# Altium integrated library Micron Memory DDR3 SDRAM.IntLib: 123 symbols (part 24 of 37)
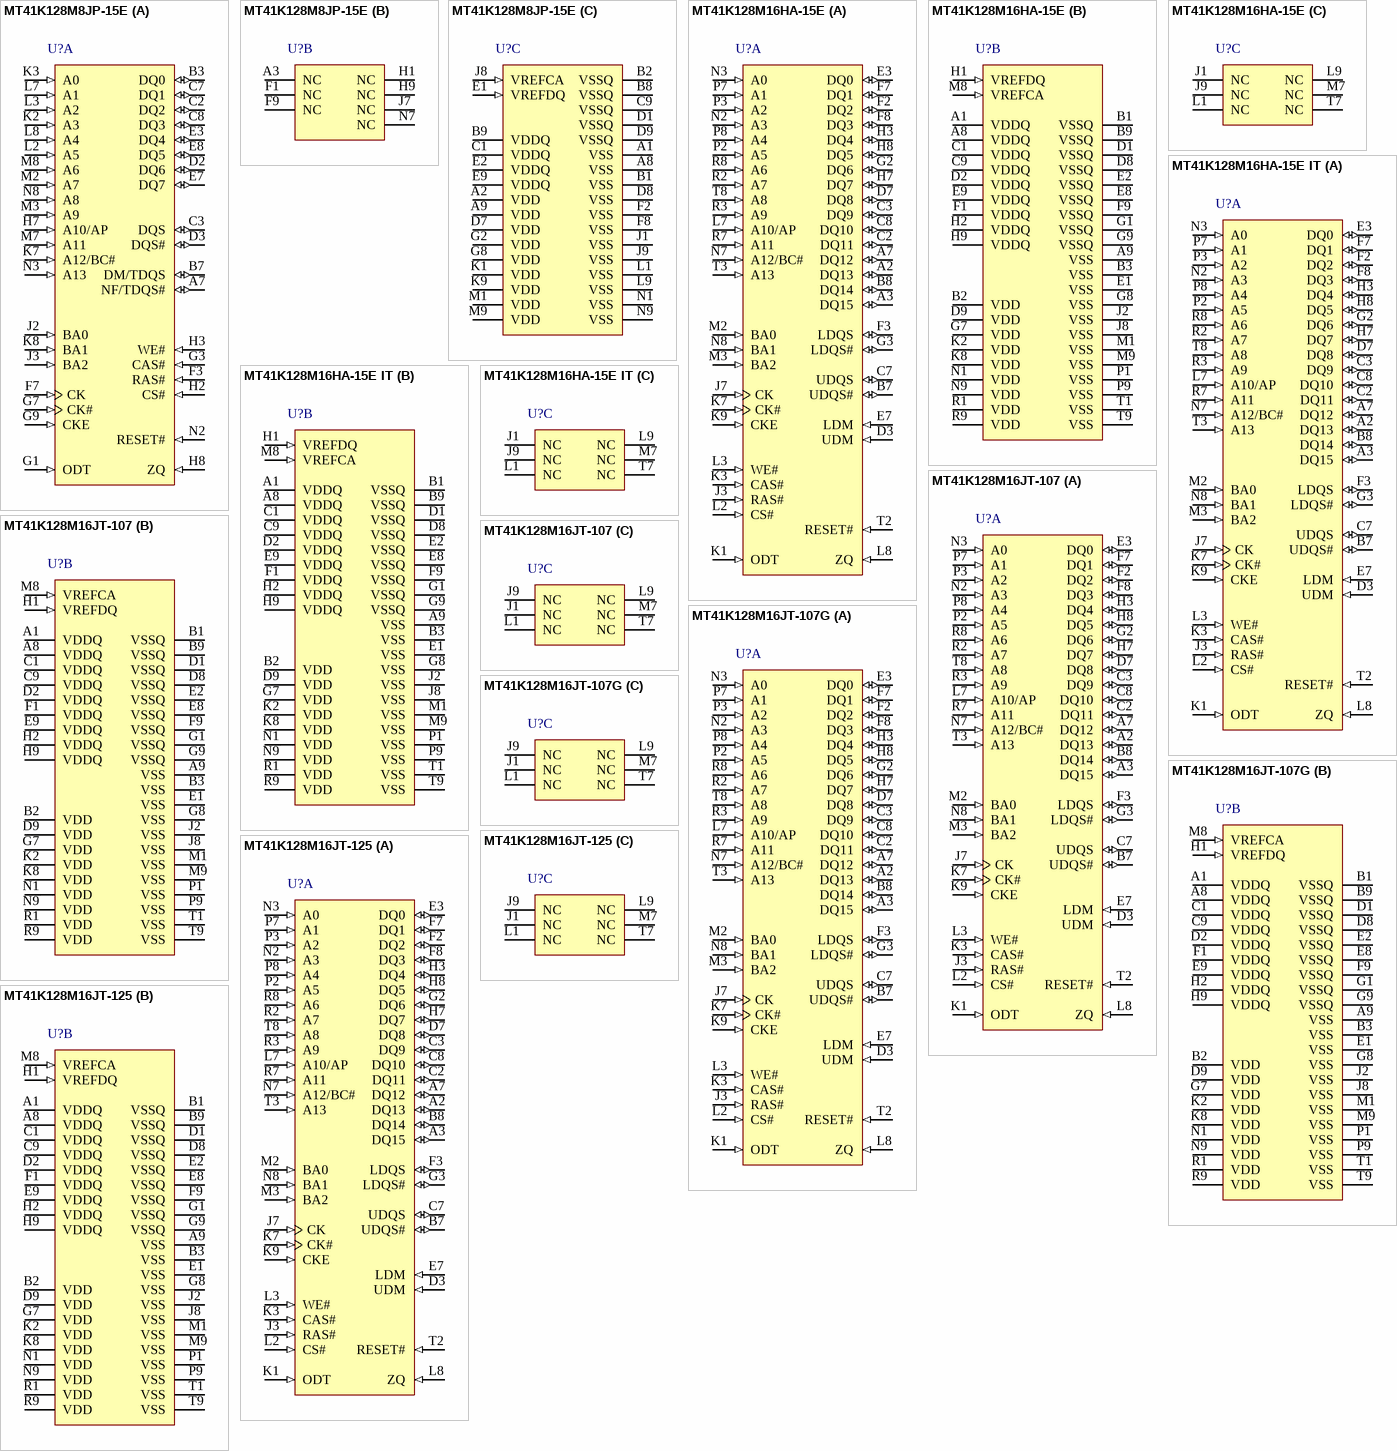
[diagram p41: symbols MT41K128M8JP-15E to MT41K128M16JT-125]

## MT41K128M16JT-107
designator U?
2Gb DDR3-1866 SDRAM, 128Mb x 16, 1.071ns, 1.35V, 0 to +95 degC, 96-Ball FBGA, Pb-Free; Manufacturer: Micron; PartNumber: MT41K128M16JT-107; CL: CL = 13; Clock Rate: 933 MHz; Op. Temp.: 0C to +95C; DatasheetVersion: Rev.G; PackageVersion: Rev.G; PackageReference: MICT-JT-96; PackageDescription: 96-Ball Fine-Pitch Ball Grid Array, 14 x 8 mm, Pitch 0.8 mm; Cycle Time: 1.071ns; Data Rate: DDR3-1866; Density: 2Gb; Depth: 128Mb; Package: FBGA; Pin Count: 96-ball; RoHS: Yes; Voltage: 1.35V; Width: x16; Mounting Technology: Surface Mount; ComponentLink1Description: Manufacturer URL; ComponentLink1URL: http://www.micron.com/; ComponentLink2Description: Datasheet; ComponentLink2URL: http://www.micron.com/~/media/Documents/Products/Data%20Sheet/DRAM/2Gb_1_35V_DDR3L.pdf; ComponentLink3Description: Package Specification; ComponentLink3URL: http://www.micron.com/~/media/Documents/Products/Data%20Sheet/DRAM/2Gb_DDR3_SDRAM.pdf
footprint MICT-JT-96 (BGA, 96-Balls, Body 14x8mm, Pitch 0.8mm)
part A pins: A2 DQ13 (io) "Data input/output: Upper byte of bidirectional data bus for the x16 configuration. DQ[15:8] are referenced to VREFDQ.", A3 DQ15 (io) "Data input/output: Upper byte of bidirectional data bus for the x16 configuration. DQ[15:8] are referenced to VREFDQ.", A7 DQ12 (io) "Data input/output: Upper byte of bidirectional data bus for the x16 configuration. DQ[15:8] are referenced to VREFDQ.", B7 UDQS# (io) "Upper byte data strobe: Output with read data. Edge-aligned with read data. Input with write data. UDQS is center-aligned to write data.", B8 DQ14 (io) "Data input/output: Upper byte of bidirectional data bus for the x16 configuration. DQ[15:8] are referenced to VREFDQ.", C2 DQ11 (io) "Data input/output: Upper byte of bidirectional data bus for the x16 configuration. DQ[15:8] are referenced to VREFDQ.", C3 DQ9 (io) "Data input/output: Upper byte of bidirectional data bus for the x16 configuration. DQ[15:8] are referenced to VREFDQ.", C7 UDQS (io) "Upper byte data strobe: Output with read data. Edge-aligned with read data. Input with write data. UDQS is center-aligned to write data.", C8 DQ10 (io) "Data input/output: Upper byte of bidirectional data bus for the x16 configuration. DQ[15:8] are referenced to VREFDQ.", D3 UDM (in) "Input data mask: UDM is an upper-byte, input mask signal for write data. Upper-byte input data is masked when UDM is sampled HIGH along with the input data during a write access. Although the UDM ball is input-only, the UDM (See Datasheet)", D7 DQ8 (io) "Data input/output: Upper byte of bidirectional data bus for the x16 configuration. DQ[15:8] are referenced to VREFDQ.", E3 DQ0 (io) "Data input/output: Lower byte of bidirectional data bus for the x16 configuration. DQ[7:0] are referenced to VREFDQ.", E7 LDM (in) "Input data mask: LDM is a lower-byte, input mask signal for write data. Lower-byte input data is masked when LDM is sampled HIGH along with the input data during a write access. Although the LDM ball is input-only, the LDM (See Datasheet)", F2 DQ2 (io) "Data input/output: Lower byte of bidirectional data bus for the x16 configuration. DQ[7:0] are referenced to VREFDQ.", F3 LDQS (io) "Lower byte data strobe: Output with read data. Edge-aligned with read data. Input with write data. LDQS is center-aligned to write data.", F7 DQ1 (io) "Data input/output: Lower byte of bidirectional data bus for the x16 configuration. DQ[7:0] are referenced to VREFDQ.", F8 DQ3 (io) "Data input/output: Lower byte of bidirectional data bus for the x16 configuration. DQ[7:0] are referenced to VREFDQ.", G2 DQ6 (io) "Data input/output: Lower byte of bidirectional data bus for the x16 configuration. DQ[7:0] are referenced to VREFDQ.", G3 LDQS# (io) "Lower byte data strobe: Output with read data. Edge-aligned with read data. Input with write data. LDQS is center-aligned to write data.", H3 DQ4 (io) "Data input/output: Lower byte of bidirectional data bus for the x16 configuration. DQ[7:0] are referenced to VREFDQ.", H7 DQ7 (io) "Data input/output: Lower byte of bidirectional data bus for the x16 configuration. DQ[7:0] are referenced to VREFDQ.", H8 DQ5 (io) "Data input/output: Lower byte of bidirectional data bus for the x16 configuration. DQ[7:0] are referenced to VREFDQ.", J3 RAS# (in) "Command inputs: RAS#, CAS#, and WE# (along with CS#) define the command being entered and are referenced to VREFCA.", J7 CK (in) "Clock: CK and CK# are differential clock inputs. All address and control input signals are sampled on the crossing of the positive edge of CK and the negative edge of CK#. Output data strobe (DQS, DQS#) is referenced to the (See Datasheet)", K1 ODT (in) "On-die termination: ODT enables (registered HIGH) and disables (registered LOW) termination resistance internal to the DDR3 SDRAM. When enabled in normal operation,ODT is only applied to each of the following balls: (See Datasheet)", K3 CAS# (in) "Command inputs: RAS#, CAS#, and WE# (along with CS#) define the command being entered and are referenced to VREFCA.", K7 CK# (in) "Clock: CK and CK# are differential clock inputs. All address and control input signals are sampled on the crossing of the positive edge of CK and the negative edge of CK#. Output data strobe (LDQS,L DQS#,UDQS,UDQS#) is (See Datasheet)", K9 CKE (in) "Clock enable: CKE enables (registered HIGH) and disables (registered LOW) internal circuitry and clocks on the DRAM. The specific circuitry that is enabled/disabled is dependent upon the DDR3 SDRAM configuration and (See Datasheet)", L2 CS# (in) "Chip select: CS# enables (registered LOW) and disables (registered HIGH) the command decoder. All commands are masked when CS# is registered HIGH. CS# provides for external rank selection on systems with multiple ranks. CS# (See Datasheet)", L3 WE# (in) "Command inputs: RAS#, CAS#, and WE# (along with CS#) define the command being entered and are referenced to VREFCA.", L7 A10/AP (in) "Address inputs: Provide the row address for ACTIVATE commands, and the column address and auto precharge bit (A10) for READ/WRITE commands, to select one location out of the memory array in the respective bank. A10 sampled (See Datasheet)", L8 ZQ (in) "External reference ball for output drive calibration: This ball is tied to an external 240ohm resistor (RZQ), which is tied to VSSQ.", M2 BA0 (in) "Bank address inputs: BA[2:0] define the bank to which an ACTIVATE, READ, WRITE, or PRECHARGE command is being applied. BA[2:0] define which mode register (MR0, MR1, MR2, or MR3) is loaded during the LOAD MODE command. (See Datasheet)", M3 BA2 (in) "Bank address inputs: BA[2:0] define the bank to which an ACTIVATE, READ, WRITE, or PRECHARGE command is being applied. BA[2:0] define which mode register (MR0, MR1, MR2, or MR3) is loaded during the LOAD MODE command. (See Datasheet)", N2 A3 (in) "Address inputs: Provide the row address for ACTIVATE commands, and the column address and auto precharge bit (A10) for READ/WRITE commands, to select one location out of the memory array in the respective bank. A10 sampled (See Datasheet)", N3 A0 (in) "Address inputs: Provide the row address for ACTIVATE commands, and the column address and auto precharge bit (A10) for READ/WRITE commands, to select one location out of the memory array in the respective bank. A10 sampled (See Datasheet)", N7 A12/BC# (in) "Address inputs: Provide the row address for ACTIVATE commands, and the column address and auto precharge bit (A10) for READ/WRITE commands, to select one location out of the memory array in the respective bank. A10 sampled (See Datasheet)", N8 BA1 (in) "Bank address inputs: BA[2:0] define the bank to which an ACTIVATE, READ, WRITE, or PRECHARGE command is being applied. BA[2:0] define which mode register (MR0, MR1, MR2, or MR3) is loaded during the LOAD MODE command. (See Datasheet)", P2 A5 (in) "Address inputs: Provide the row address for ACTIVATE commands, and the column address and auto precharge bit (A10) for READ/WRITE commands, to select one location out of the memory array in the respective bank. A10 sampled (See Datasheet)", P3 A2 (in) "Address inputs: Provide the row address for ACTIVATE commands, and the column address and auto precharge bit (A10) for READ/WRITE commands, to select one location out of the memory array in the respective bank. A10 sampled (See Datasheet)", P7 A1 (in) "Address inputs: Provide the row address for ACTIVATE commands, and the column address and auto precharge bit (A10) for READ/WRITE commands, to select one location out of the memory array in the respective bank. A10 sampled (See Datasheet)", P8 A4 (in) "Address inputs: Provide the row address for ACTIVATE commands, and the column address and auto precharge bit (A10) for READ/WRITE commands, to select one location out of the memory array in the respective bank. A10 sampled (See Datasheet)", R2 A7 (in) "Address inputs: Provide the row address for ACTIVATE commands, and the column address and auto precharge bit (A10) for READ/WRITE commands, to select one location out of the memory array in the respective bank. A10 sampled (See Datasheet)", R3 A9 (in) "Address inputs: Provide the row address for ACTIVATE commands, and the column address and auto precharge bit (A10) for READ/WRITE commands, to select one location out of the memory array in the respective bank. A10 sampled (See Datasheet)", R7 A11 (in) "Address inputs: Provide the row address for ACTIVATE commands, and the column address and auto precharge bit (A10) for READ/WRITE commands, to select one location out of the memory array in the respective bank. A10 sampled (See Datasheet)", R8 A6 (in) "Address inputs: Provide the row address for ACTIVATE commands, and the column address and auto precharge bit (A10) for READ/WRITE commands, to select one location out of the memory array in the respective bank. A10 sampled (See Datasheet)", T2 RESET# (in) "Reset: RESET# is an active LOW CMOS input referenced to VSS. The RESET# input receiver is a CMOS input defined as a rail-to-rail signal with DC HIGH >= 0.8 x VDDQ and DC LOW =< 0.2 x VDDQ. RESET# assertion and deassertion (See Datasheet)", T3 A13 (in) "Address inputs: Provide the row address for ACTIVATE commands, and the column address and auto precharge bit (A10) for READ/WRITE commands, to select one location out of the memory array in the respective bank. A10 sampled (See Datasheet)", T8 A8 (in) "Address inputs: Provide the row address for ACTIVATE commands, and the column address and auto precharge bit (A10) for READ/WRITE commands, to select one location out of the memory array in the respective bank. A10 sampled (See Datasheet)"
part B pins: A1 VDDQ (power) "DQ power supply: 1.35V, 1.283-1.45V operational; compatible with 1.5V operation.", A8 VDDQ (power) "DQ power supply: 1.35V, 1.283-1.45V operational; compatible with 1.5V operation.", A9 VSS (power) "Ground.", B1 VSSQ (power) "DQ ground: Isolated on the device for improved noise immunity.", B2 VDD (power) "Power supply: 1.35V, 1.283-1.45V operational; compatible to 1.5V operation.", B3 VSS (power) "Ground.", B9 VSSQ (power) "DQ ground: Isolated on the device for improved noise immunity.", C1 VDDQ (power) "DQ power supply: 1.35V, 1.283-1.45V operational; compatible with 1.5V operation.", C9 VDDQ (power) "DQ power supply: 1.35V, 1.283-1.45V operational; compatible with 1.5V operation.", D1 VSSQ (power) "DQ ground: Isolated on the device for improved noise immunity.", D2 VDDQ (power) "DQ power supply: 1.35V, 1.283-1.45V operational; compatible with 1.5V operation.", D8 VSSQ (power) "DQ ground: Isolated on the device for improved noise immunity.", D9 VDD (power) "Power supply: 1.35V, 1.283-1.45V operational; compatible to 1.5V operation.", E1 VSS (power) "Ground.", E2 VSSQ (power) "DQ ground: Isolated on the device for improved noise immunity.", E8 VSSQ (power) "DQ ground: Isolated on the device for improved noise immunity.", E9 VDDQ (power) "DQ power supply: 1.35V, 1.283-1.45V operational; compatible with 1.5V operation.", F1 VDDQ (power) "DQ power supply: 1.35V, 1.283-1.45V operational; compatible with 1.5V operation.", F9 VSSQ (power) "DQ ground: Isolated on the device for improved noise immunity.", G1 VSSQ (power) "DQ ground: Isolated on the device for improved noise immunity.", G7 VDD (power) "Power supply: 1.35V, 1.283-1.45V operational; compatible to 1.5V operation.", G8 VSS (power) "Ground.", G9 VSSQ (power) "DQ ground: Isolated on the device for improved noise immunity.", H1 VREFDQ (in) "Reference voltage for data: VREFDQ must be maintained at all times (including self refresh) for proper device operation.", H2 VDDQ (power) "DQ power supply: 1.35V, 1.283-1.45V operational; compatible with 1.5V operation.", H9 VDDQ (power) "DQ power supply: 1.35V, 1.283-1.45V operational; compatible with 1.5V operation.", J2 VSS (power) "Ground.", J8 VSS (power) "Ground.", K2 VDD (power) "Power supply: 1.35V, 1.283-1.45V operational; compatible to 1.5V operation.", K8 VDD (power) "Power supply: 1.35V, 1.283-1.45V operational; compatible to 1.5V operation.", M1 VSS (power) "Ground.", M8 VREFCA (in) "Reference voltage for control, command, and address: VREFCA must be maintained at all times (including self refresh) for proper device operation.", M9 VSS (power) "Ground.", N1 VDD (power) "Power supply: 1.35V, 1.283-1.45V operational; compatible to 1.5V operation.", N9 VDD (power) "Power supply: 1.35V, 1.283-1.45V operational; compatible to 1.5V operation.", P1 VSS (power) "Ground.", P9 VSS (power) "Ground.", R1 VDD (power) "Power supply: 1.35V, 1.283-1.45V operational; compatible to 1.5V operation.", R9 VDD (power) "Power supply: 1.35V, 1.283-1.45V operational; compatible to 1.5V operation.", T1 VSS (power) "Ground.", T9 VSS (power) "Ground."
part C pins: J1 NC "No connect: These balls should be left unconnected (the ball has no connection to the DRAM or to other balls).", J9 NC "No connect: These balls should be left unconnected (the ball has no connection to the DRAM or to other balls).", L1 NC "No connect: These balls should be left unconnected (the ball has no connection to the DRAM or to other balls).", L9 NC "No connect: These balls should be left unconnected (the ball has no connection to the DRAM or to other balls).", M7 NC "No connect: These balls should be left unconnected (the ball has no connection to the DRAM or to other balls).", T7 NC "No connect: These balls should be left unconnected (the ball has no connection to the DRAM or to other balls)."

## MT41K128M16JT-107G
designator U?
2Gb DDR3-1866 SDRAM, 128Mb x 16, 1.071ns, 1.35V, 0 to 95 degC, 96-Ball FBGA, Pb-Free; Manufacturer: Micron; PartNumber: MT41K128M16JT-107G; CL: CL = 13; Clock Rate: 933 MHz; Op. Temp.: 0C to +95C; DatasheetVersion: Rev. C; PackageVersion: Rev.G; PackageReference: MICT-JT-96; PackageDescription: 96-Ball Fine-Pitch Ball Grid Array, 14 x 8 mm, Pitch 0.8 mm; Cycle Time: 1.071ns; Data Rate: DDR3-1866; Density: 2Gb; Depth: 128Mb; Package: FBGA; Pin Count: 96-ball; RoHS: Yes; Voltage: 1.35V; Width: x16; Mounting Technology: Surface Mount; ComponentLink1Description: Manufacturer URL; ComponentLink1URL: http://www.micron.com/; ComponentLink2Description: Datasheet; ComponentLink2URL: http://www.micron.com/~/media/Documents/Products/Data%20Sheet/DRAM/ddr3L_2gb_graphics_addendum.pdf; ComponentLink3Description: Package Specification; ComponentLink3URL: http://www.micron.com/~/media/Documents/Products/Data%20Sheet/DRAM/2Gb_DDR3_SDRAM.pdf
footprint MICT-JT-96 (BGA, 96-Balls, Body 14x8mm, Pitch 0.8mm)
part A pins: A2 DQ13 (io) "Data input/output: Upper byte of bidirectional data bus for the x16 configuration. DQ[15:8] are referenced to VREFDQ.", A3 DQ15 (io) "Data input/output: Upper byte of bidirectional data bus for the x16 configuration. DQ[15:8] are referenced to VREFDQ.", A7 DQ12 (io) "Data input/output: Upper byte of bidirectional data bus for the x16 configuration. DQ[15:8] are referenced to VREFDQ.", B7 UDQS# (io) "Upper byte data strobe: Output with read data. Edge-aligned with read data. Input with write data. UDQS is center-aligned to write data.", B8 DQ14 (io) "Data input/output: Upper byte of bidirectional data bus for the x16 configuration. DQ[15:8] are referenced to VREFDQ.", C2 DQ11 (io) "Data input/output: Upper byte of bidirectional data bus for the x16 configuration. DQ[15:8] are referenced to VREFDQ.", C3 DQ9 (io) "Data input/output: Upper byte of bidirectional data bus for the x16 configuration. DQ[15:8] are referenced to VREFDQ.", C7 UDQS (io) "Upper byte data strobe: Output with read data. Edge-aligned with read data. Input with write data. UDQS is center-aligned to write data.", C8 DQ10 (io) "Data input/output: Upper byte of bidirectional data bus for the x16 configuration. DQ[15:8] are referenced to VREFDQ.", D3 UDM (in) "Input data mask: UDM is an upper-byte, input mask signal for write data. Upper-byte input data is masked when UDM is sampled HIGH along with the input data during a write access. Although the UDM ball is input-only, the UDM (See Datasheet)", D7 DQ8 (io) "Data input/output: Upper byte of bidirectional data bus for the x16 configuration. DQ[15:8] are referenced to VREFDQ.", E3 DQ0 (io) "Data input/output: Lower byte of bidirectional data bus for the x16 configuration. DQ[7:0] are referenced to VREFDQ.", E7 LDM (in) "Input data mask: LDM is a lower-byte, input mask signal for write data. Lower-byte input data is masked when LDM is sampled HIGH along with the input data during a write access. Although the LDM ball is input-only, the LDM (See Datasheet)", F2 DQ2 (io) "Data input/output: Lower byte of bidirectional data bus for the x16 configuration. DQ[7:0] are referenced to VREFDQ.", F3 LDQS (io) "Lower byte data strobe: Output with read data. Edge-aligned with read data. Input with write data. LDQS is center-aligned to write data.", F7 DQ1 (io) "Data input/output: Lower byte of bidirectional data bus for the x16 configuration. DQ[7:0] are referenced to VREFDQ.", F8 DQ3 (io) "Data input/output: Lower byte of bidirectional data bus for the x16 configuration. DQ[7:0] are referenced to VREFDQ.", G2 DQ6 (io) "Data input/output: Lower byte of bidirectional data bus for the x16 configuration. DQ[7:0] are referenced to VREFDQ.", G3 LDQS# (io) "Lower byte data strobe: Output with read data. Edge-aligned with read data. Input with write data. LDQS is center-aligned to write data.", H3 DQ4 (io) "Data input/output: Lower byte of bidirectional data bus for the x16 configuration. DQ[7:0] are referenced to VREFDQ.", H7 DQ7 (io) "Data input/output: Lower byte of bidirectional data bus for the x16 configuration. DQ[7:0] are referenced to VREFDQ.", H8 DQ5 (io) "Data input/output: Lower byte of bidirectional data bus for the x16 configuration. DQ[7:0] are referenced to VREFDQ.", J3 RAS# (in) "Command inputs: RAS#, CAS#, and WE# (along with CS#) define the command being entered and are referenced to VREFCA.", J7 CK (in) "Clock: CK and CK# are differential clock inputs. All address and control input signals are sampled on the crossing of the positive edge of CK and the negative edge of CK#. Output data strobe (DQS, DQS#) is referenced to the (See Datasheet)", K1 ODT (in) "On-die termination: ODT enables (registered HIGH) and disables (registered LOW) termination resistance internal to the DDR3 SDRAM. When enabled in normal operation,ODT is only applied to each of the following balls: (See Datasheet)", K3 CAS# (in) "Command inputs: RAS#, CAS#, and WE# (along with CS#) define the command being entered and are referenced to VREFCA.", K7 CK# (in) "Clock: CK and CK# are differential clock inputs. All address and control input signals are sampled on the crossing of the positive edge of CK and the negative edge of CK#. Output data strobe (LDQS,L DQS#,UDQS,UDQS#) is (See Datasheet)", K9 CKE (in) "Clock enable: CKE enables (registered HIGH) and disables (registered LOW) internal circuitry and clocks on the DRAM. The specific circuitry that is enabled/disabled is dependent upon the DDR3 SDRAM configuration and (See Datasheet)", L2 CS# (in) "Chip select: CS# enables (registered LOW) and disables (registered HIGH) the command decoder. All commands are masked when CS# is registered HIGH. CS# provides for external rank selection on systems with multiple ranks. CS# (See Datasheet)", L3 WE# (in) "Command inputs: RAS#, CAS#, and WE# (along with CS#) define the command being entered and are referenced to VREFCA.", L7 A10/AP (in) "Address inputs: Provide the row address for ACTIVATE commands, and the column address and auto precharge bit (A10) for READ/WRITE commands, to select one location out of the memory array in the respective bank. A10 sampled (See Datasheet)", L8 ZQ (in) "External reference ball for output drive calibration: This ball is tied to an external 240ohm resistor (RZQ), which is tied to VSSQ.", M2 BA0 (in) "Bank address inputs: BA[2:0] define the bank to which an ACTIVATE, READ, WRITE, or PRECHARGE command is being applied. BA[2:0] define which mode register (MR0, MR1, MR2, or MR3) is loaded during the LOAD MODE command. (See Datasheet)", M3 BA2 (in) "Bank address inputs: BA[2:0] define the bank to which an ACTIVATE, READ, WRITE, or PRECHARGE command is being applied. BA[2:0] define which mode register (MR0, MR1, MR2, or MR3) is loaded during the LOAD MODE command. (See Datasheet)", N2 A3 (in) "Address inputs: Provide the row address for ACTIVATE commands, and the column address and auto precharge bit (A10) for READ/WRITE commands, to select one location out of the memory array in the respective bank. A10 sampled (See Datasheet)", N3 A0 (in) "Address inputs: Provide the row address for ACTIVATE commands, and the column address and auto precharge bit (A10) for READ/WRITE commands, to select one location out of the memory array in the respective bank. A10 sampled (See Datasheet)", N7 A12/BC# (in) "Address inputs: Provide the row address for ACTIVATE commands, and the column address and auto precharge bit (A10) for READ/WRITE commands, to select one location out of the memory array in the respective bank. A10 sampled (See Datasheet)", N8 BA1 (in) "Bank address inputs: BA[2:0] define the bank to which an ACTIVATE, READ, WRITE, or PRECHARGE command is being applied. BA[2:0] define which mode register (MR0, MR1, MR2, or MR3) is loaded during the LOAD MODE command. (See Datasheet)", P2 A5 (in) "Address inputs: Provide the row address for ACTIVATE commands, and the column address and auto precharge bit (A10) for READ/WRITE commands, to select one location out of the memory array in the respective bank. A10 sampled (See Datasheet)", P3 A2 (in) "Address inputs: Provide the row address for ACTIVATE commands, and the column address and auto precharge bit (A10) for READ/WRITE commands, to select one location out of the memory array in the respective bank. A10 sampled (See Datasheet)", P7 A1 (in) "Address inputs: Provide the row address for ACTIVATE commands, and the column address and auto precharge bit (A10) for READ/WRITE commands, to select one location out of the memory array in the respective bank. A10 sampled (See Datasheet)", P8 A4 (in) "Address inputs: Provide the row address for ACTIVATE commands, and the column address and auto precharge bit (A10) for READ/WRITE commands, to select one location out of the memory array in the respective bank. A10 sampled (See Datasheet)", R2 A7 (in) "Address inputs: Provide the row address for ACTIVATE commands, and the column address and auto precharge bit (A10) for READ/WRITE commands, to select one location out of the memory array in the respective bank. A10 sampled (See Datasheet)", R3 A9 (in) "Address inputs: Provide the row address for ACTIVATE commands, and the column address and auto precharge bit (A10) for READ/WRITE commands, to select one location out of the memory array in the respective bank. A10 sampled (See Datasheet)", R7 A11 (in) "Address inputs: Provide the row address for ACTIVATE commands, and the column address and auto precharge bit (A10) for READ/WRITE commands, to select one location out of the memory array in the respective bank. A10 sampled (See Datasheet)", R8 A6 (in) "Address inputs: Provide the row address for ACTIVATE commands, and the column address and auto precharge bit (A10) for READ/WRITE commands, to select one location out of the memory array in the respective bank. A10 sampled (See Datasheet)", T2 RESET# (in) "Reset: RESET# is an active LOW CMOS input referenced to VSS. The RESET# input receiver is a CMOS input defined as a rail-to-rail signal with DC HIGH >= 0.8 x VDDQ and DC LOW =< 0.2 x VDDQ. RESET# assertion and deassertion (See Datasheet)", T3 A13 (in) "Address inputs: Provide the row address for ACTIVATE commands, and the column address and auto precharge bit (A10) for READ/WRITE commands, to select one location out of the memory array in the respective bank. A10 sampled (See Datasheet)", T8 A8 (in) "Address inputs: Provide the row address for ACTIVATE commands, and the column address and auto precharge bit (A10) for READ/WRITE commands, to select one location out of the memory array in the respective bank. A10 sampled (See Datasheet)"
part B pins: A1 VDDQ (power) "DQ power supply: 1.35V, 1.283-1.45V operational; compatible with 1.5V operation.", A8 VDDQ (power) "DQ power supply: 1.35V, 1.283-1.45V operational; compatible with 1.5V operation.", A9 VSS (power) "Ground.", B1 VSSQ (power) "DQ ground: Isolated on the device for improved noise immunity.", B2 VDD (power) "Power supply: 1.35V, 1.283-1.45V operational; compatible to 1.5V operation.", B3 VSS (power) "Ground.", B9 VSSQ (power) "DQ ground: Isolated on the device for improved noise immunity.", C1 VDDQ (power) "DQ power supply: 1.35V, 1.283-1.45V operational; compatible with 1.5V operation.", C9 VDDQ (power) "DQ power supply: 1.35V, 1.283-1.45V operational; compatible with 1.5V operation.", D1 VSSQ (power) "DQ ground: Isolated on the device for improved noise immunity.", D2 VDDQ (power) "DQ power supply: 1.35V, 1.283-1.45V operational; compatible with 1.5V operation.", D8 VSSQ (power) "DQ ground: Isolated on the device for improved noise immunity.", D9 VDD (power) "Power supply: 1.35V, 1.283-1.45V operational; compatible to 1.5V operation.", E1 VSS (power) "Ground.", E2 VSSQ (power) "DQ ground: Isolated on the device for improved noise immunity.", E8 VSSQ (power) "DQ ground: Isolated on the device for improved noise immunity.", E9 VDDQ (power) "DQ power supply: 1.35V, 1.283-1.45V operational; compatible with 1.5V operation.", F1 VDDQ (power) "DQ power supply: 1.35V, 1.283-1.45V operational; compatible with 1.5V operation.", F9 VSSQ (power) "DQ ground: Isolated on the device for improved noise immunity.", G1 VSSQ (power) "DQ ground: Isolated on the device for improved noise immunity.", G7 VDD (power) "Power supply: 1.35V, 1.283-1.45V operational; compatible to 1.5V operation.", G8 VSS (power) "Ground.", G9 VSSQ (power) "DQ ground: Isolated on the device for improved noise immunity.", H1 VREFDQ (in) "Reference voltage for data: VREFDQ must be maintained at all times (including self refresh) for proper device operation.", H2 VDDQ (power) "DQ power supply: 1.35V, 1.283-1.45V operational; compatible with 1.5V operation.", H9 VDDQ (power) "DQ power supply: 1.35V, 1.283-1.45V operational; compatible with 1.5V operation.", J2 VSS (power) "Ground.", J8 VSS (power) "Ground.", K2 VDD (power) "Power supply: 1.35V, 1.283-1.45V operational; compatible to 1.5V operation.", K8 VDD (power) "Power supply: 1.35V, 1.283-1.45V operational; compatible to 1.5V operation.", M1 VSS (power) "Ground.", M8 VREFCA (in) "Reference voltage for control, command, and address: VREFCA must be maintained at all times (including self refresh) for proper device operation.", M9 VSS (power) "Ground.", N1 VDD (power) "Power supply: 1.35V, 1.283-1.45V operational; compatible to 1.5V operation.", N9 VDD (power) "Power supply: 1.35V, 1.283-1.45V operational; compatible to 1.5V operation.", P1 VSS (power) "Ground.", P9 VSS (power) "Ground.", R1 VDD (power) "Power supply: 1.35V, 1.283-1.45V operational; compatible to 1.5V operation.", R9 VDD (power) "Power supply: 1.35V, 1.283-1.45V operational; compatible to 1.5V operation.", T1 VSS (power) "Ground.", T9 VSS (power) "Ground."
part C pins: J1 NC "No connect: These balls should be left unconnected (the ball has no connection to the DRAM or to other balls).", J9 NC "No connect: These balls should be left unconnected (the ball has no connection to the DRAM or to other balls).", L1 NC "No connect: These balls should be left unconnected (the ball has no connection to the DRAM or to other balls).", L9 NC "No connect: These balls should be left unconnected (the ball has no connection to the DRAM or to other balls).", M7 NC "No connect: These balls should be left unconnected (the ball has no connection to the DRAM or to other balls).", T7 NC "No connect: These balls should be left unconnected (the ball has no connection to the DRAM or to other balls)."

## MT41K128M16JT-125
designator U?
2Gb DDR3-1600 SDRAM, 128Mb x 16, 1.25ns, 1.35V, 0 to 95 degC, 96-Ball FBGA, Pb-Free; Manufacturer: Micron; PartNumber: MT41K128M16JT-125; CL: CL = 11; Clock Rate: 800 MHz; Op. Temp.: 0C to +95C; DatasheetVersion: Rev.G; PackageVersion: Rev.G; PackageReference: MICT-JT-96; PackageDescription: 96-Ball Fine-Pitch Ball Grid Array, 14 x 8 mm, Pitch 0.8 mm; Cycle Time: 1.25ns; Data Rate: DDR3-1600; Density: 2Gb; Depth: 128Mb; Package: FBGA; Pin Count: 96-ball; RoHS: Yes; Voltage: 1.35V; Width: x16; Mounting Technology: Surface Mount; ComponentLink1Description: Manufacturer URL; ComponentLink1URL: http://www.micron.com/; ComponentLink2Description: Datasheet; ComponentLink2URL: http://www.micron.com/~/media/Documents/Products/Data%20Sheet/DRAM/2Gb_1_35V_DDR3L.pdf; ComponentLink3Description: Package Specification; ComponentLink3URL: http://www.micron.com/~/media/Documents/Products/Data%20Sheet/DRAM/2Gb_DDR3_SDRAM.pdf
footprint MICT-JT-96 (BGA, 96-Balls, Body 14x8mm, Pitch 0.8mm)
part A pins: A2 DQ13 (io) "Data input/output: Upper byte of bidirectional data bus for the x16 configuration. DQ[15:8] are referenced to VREFDQ.", A3 DQ15 (io) "Data input/output: Upper byte of bidirectional data bus for the x16 configuration. DQ[15:8] are referenced to VREFDQ.", A7 DQ12 (io) "Data input/output: Upper byte of bidirectional data bus for the x16 configuration. DQ[15:8] are referenced to VREFDQ.", B7 UDQS# (io) "Upper byte data strobe: Output with read data. Edge-aligned with read data. Input with write data. UDQS is center-aligned to write data.", B8 DQ14 (io) "Data input/output: Upper byte of bidirectional data bus for the x16 configuration. DQ[15:8] are referenced to VREFDQ.", C2 DQ11 (io) "Data input/output: Upper byte of bidirectional data bus for the x16 configuration. DQ[15:8] are referenced to VREFDQ.", C3 DQ9 (io) "Data input/output: Upper byte of bidirectional data bus for the x16 configuration. DQ[15:8] are referenced to VREFDQ.", C7 UDQS (io) "Upper byte data strobe: Output with read data. Edge-aligned with read data. Input with write data. UDQS is center-aligned to write data.", C8 DQ10 (io) "Data input/output: Upper byte of bidirectional data bus for the x16 configuration. DQ[15:8] are referenced to VREFDQ.", D3 UDM (in) "Input data mask: UDM is an upper-byte, input mask signal for write data. Upper-byte input data is masked when UDM is sampled HIGH along with the input data during a write access. Although the UDM ball is input-only, the UDM (See Datasheet)", D7 DQ8 (io) "Data input/output: Upper byte of bidirectional data bus for the x16 configuration. DQ[15:8] are referenced to VREFDQ.", E3 DQ0 (io) "Data input/output: Lower byte of bidirectional data bus for the x16 configuration. DQ[7:0] are referenced to VREFDQ.", E7 LDM (in) "Input data mask: LDM is a lower-byte, input mask signal for write data. Lower-byte input data is masked when LDM is sampled HIGH along with the input data during a write access. Although the LDM ball is input-only, the LDM (See Datasheet)", F2 DQ2 (io) "Data input/output: Lower byte of bidirectional data bus for the x16 configuration. DQ[7:0] are referenced to VREFDQ.", F3 LDQS (io) "Lower byte data strobe: Output with read data. Edge-aligned with read data. Input with write data. LDQS is center-aligned to write data.", F7 DQ1 (io) "Data input/output: Lower byte of bidirectional data bus for the x16 configuration. DQ[7:0] are referenced to VREFDQ.", F8 DQ3 (io) "Data input/output: Lower byte of bidirectional data bus for the x16 configuration. DQ[7:0] are referenced to VREFDQ.", G2 DQ6 (io) "Data input/output: Lower byte of bidirectional data bus for the x16 configuration. DQ[7:0] are referenced to VREFDQ.", G3 LDQS# (io) "Lower byte data strobe: Output with read data. Edge-aligned with read data. Input with write data. LDQS is center-aligned to write data.", H3 DQ4 (io) "Data input/output: Lower byte of bidirectional data bus for the x16 configuration. DQ[7:0] are referenced to VREFDQ.", H7 DQ7 (io) "Data input/output: Lower byte of bidirectional data bus for the x16 configuration. DQ[7:0] are referenced to VREFDQ.", H8 DQ5 (io) "Data input/output: Lower byte of bidirectional data bus for the x16 configuration. DQ[7:0] are referenced to VREFDQ.", J3 RAS# (in) "Command inputs: RAS#, CAS#, and WE# (along with CS#) define the command being entered and are referenced to VREFCA.", J7 CK (in) "Clock: CK and CK# are differential clock inputs. All address and control input signals are sampled on the crossing of the positive edge of CK and the negative edge of CK#. Output data strobe (DQS, DQS#) is referenced to the (See Datasheet)", K1 ODT (in) "On-die termination: ODT enables (registered HIGH) and disables (registered LOW) termination resistance internal to the DDR3 SDRAM. When enabled in normal operation,ODT is only applied to each of the following balls: (See Datasheet)", K3 CAS# (in) "Command inputs: RAS#, CAS#, and WE# (along with CS#) define the command being entered and are referenced to VREFCA.", K7 CK# (in) "Clock: CK and CK# are differential clock inputs. All address and control input signals are sampled on the crossing of the positive edge of CK and the negative edge of CK#. Output data strobe (LDQS,L DQS#,UDQS,UDQS#) is (See Datasheet)", K9 CKE (in) "Clock enable: CKE enables (registered HIGH) and disables (registered LOW) internal circuitry and clocks on the DRAM. The specific circuitry that is enabled/disabled is dependent upon the DDR3 SDRAM configuration and (See Datasheet)", L2 CS# (in) "Chip select: CS# enables (registered LOW) and disables (registered HIGH) the command decoder. All commands are masked when CS# is registered HIGH. CS# provides for external rank selection on systems with multiple ranks. CS# (See Datasheet)", L3 WE# (in) "Command inputs: RAS#, CAS#, and WE# (along with CS#) define the command being entered and are referenced to VREFCA.", L7 A10/AP (in) "Address inputs: Provide the row address for ACTIVATE commands, and the column address and auto precharge bit (A10) for READ/WRITE commands, to select one location out of the memory array in the respective bank. A10 sampled (See Datasheet)", L8 ZQ (in) "External reference ball for output drive calibration: This ball is tied to an external 240ohm resistor (RZQ), which is tied to VSSQ.", M2 BA0 (in) "Bank address inputs: BA[2:0] define the bank to which an ACTIVATE, READ, WRITE, or PRECHARGE command is being applied. BA[2:0] define which mode register (MR0, MR1, MR2, or MR3) is loaded during the LOAD MODE command. (See Datasheet)", M3 BA2 (in) "Bank address inputs: BA[2:0] define the bank to which an ACTIVATE, READ, WRITE, or PRECHARGE command is being applied. BA[2:0] define which mode register (MR0, MR1, MR2, or MR3) is loaded during the LOAD MODE command. (See Datasheet)", N2 A3 (in) "Address inputs: Provide the row address for ACTIVATE commands, and the column address and auto precharge bit (A10) for READ/WRITE commands, to select one location out of the memory array in the respective bank. A10 sampled (See Datasheet)", N3 A0 (in) "Address inputs: Provide the row address for ACTIVATE commands, and the column address and auto precharge bit (A10) for READ/WRITE commands, to select one location out of the memory array in the respective bank. A10 sampled (See Datasheet)", N7 A12/BC# (in) "Address inputs: Provide the row address for ACTIVATE commands, and the column address and auto precharge bit (A10) for READ/WRITE commands, to select one location out of the memory array in the respective bank. A10 sampled (See Datasheet)", N8 BA1 (in) "Bank address inputs: BA[2:0] define the bank to which an ACTIVATE, READ, WRITE, or PRECHARGE command is being applied. BA[2:0] define which mode register (MR0, MR1, MR2, or MR3) is loaded during the LOAD MODE command. (See Datasheet)", P2 A5 (in) "Address inputs: Provide the row address for ACTIVATE commands, and the column address and auto precharge bit (A10) for READ/WRITE commands, to select one location out of the memory array in the respective bank. A10 sampled (See Datasheet)", P3 A2 (in) "Address inputs: Provide the row address for ACTIVATE commands, and the column address and auto precharge bit (A10) for READ/WRITE commands, to select one location out of the memory array in the respective bank. A10 sampled (See Datasheet)", P7 A1 (in) "Address inputs: Provide the row address for ACTIVATE commands, and the column address and auto precharge bit (A10) for READ/WRITE commands, to select one location out of the memory array in the respective bank. A10 sampled (See Datasheet)", P8 A4 (in) "Address inputs: Provide the row address for ACTIVATE commands, and the column address and auto precharge bit (A10) for READ/WRITE commands, to select one location out of the memory array in the respective bank. A10 sampled (See Datasheet)", R2 A7 (in) "Address inputs: Provide the row address for ACTIVATE commands, and the column address and auto precharge bit (A10) for READ/WRITE commands, to select one location out of the memory array in the respective bank. A10 sampled (See Datasheet)", R3 A9 (in) "Address inputs: Provide the row address for ACTIVATE commands, and the column address and auto precharge bit (A10) for READ/WRITE commands, to select one location out of the memory array in the respective bank. A10 sampled (See Datasheet)", R7 A11 (in) "Address inputs: Provide the row address for ACTIVATE commands, and the column address and auto precharge bit (A10) for READ/WRITE commands, to select one location out of the memory array in the respective bank. A10 sampled (See Datasheet)", R8 A6 (in) "Address inputs: Provide the row address for ACTIVATE commands, and the column address and auto precharge bit (A10) for READ/WRITE commands, to select one location out of the memory array in the respective bank. A10 sampled (See Datasheet)", T2 RESET# (in) "Reset: RESET# is an active LOW CMOS input referenced to VSS. The RESET# input receiver is a CMOS input defined as a rail-to-rail signal with DC HIGH >= 0.8 x VDDQ and DC LOW =< 0.2 x VDDQ. RESET# assertion and deassertion (See Datasheet)", T3 A13 (in) "Address inputs: Provide the row address for ACTIVATE commands, and the column address and auto precharge bit (A10) for READ/WRITE commands, to select one location out of the memory array in the respective bank. A10 sampled (See Datasheet)", T8 A8 (in) "Address inputs: Provide the row address for ACTIVATE commands, and the column address and auto precharge bit (A10) for READ/WRITE commands, to select one location out of the memory array in the respective bank. A10 sampled (See Datasheet)"
part B pins: A1 VDDQ (power) "DQ power supply: 1.35V, 1.283-1.45V operational; compatible with 1.5V operation.", A8 VDDQ (power) "DQ power supply: 1.35V, 1.283-1.45V operational; compatible with 1.5V operation.", A9 VSS (power) "Ground.", B1 VSSQ (power) "DQ ground: Isolated on the device for improved noise immunity.", B2 VDD (power) "Power supply: 1.35V, 1.283-1.45V operational; compatible to 1.5V operation.", B3 VSS (power) "Ground.", B9 VSSQ (power) "DQ ground: Isolated on the device for improved noise immunity.", C1 VDDQ (power) "DQ power supply: 1.35V, 1.283-1.45V operational; compatible with 1.5V operation.", C9 VDDQ (power) "DQ power supply: 1.35V, 1.283-1.45V operational; compatible with 1.5V operation.", D1 VSSQ (power) "DQ ground: Isolated on the device for improved noise immunity.", D2 VDDQ (power) "DQ power supply: 1.35V, 1.283-1.45V operational; compatible with 1.5V operation.", D8 VSSQ (power) "DQ ground: Isolated on the device for improved noise immunity.", D9 VDD (power) "Power supply: 1.35V, 1.283-1.45V operational; compatible to 1.5V operation.", E1 VSS (power) "Ground.", E2 VSSQ (power) "DQ ground: Isolated on the device for improved noise immunity.", E8 VSSQ (power) "DQ ground: Isolated on the device for improved noise immunity.", E9 VDDQ (power) "DQ power supply: 1.35V, 1.283-1.45V operational; compatible with 1.5V operation.", F1 VDDQ (power) "DQ power supply: 1.35V, 1.283-1.45V operational; compatible with 1.5V operation.", F9 VSSQ (power) "DQ ground: Isolated on the device for improved noise immunity.", G1 VSSQ (power) "DQ ground: Isolated on the device for improved noise immunity.", G7 VDD (power) "Power supply: 1.35V, 1.283-1.45V operational; compatible to 1.5V operation.", G8 VSS (power) "Ground.", G9 VSSQ (power) "DQ ground: Isolated on the device for improved noise immunity.", H1 VREFDQ (in) "Reference voltage for data: VREFDQ must be maintained at all times (including self refresh) for proper device operation.", H2 VDDQ (power) "DQ power supply: 1.35V, 1.283-1.45V operational; compatible with 1.5V operation.", H9 VDDQ (power) "DQ power supply: 1.35V, 1.283-1.45V operational; compatible with 1.5V operation.", J2 VSS (power) "Ground.", J8 VSS (power) "Ground.", K2 VDD (power) "Power supply: 1.35V, 1.283-1.45V operational; compatible to 1.5V operation.", K8 VDD (power) "Power supply: 1.35V, 1.283-1.45V operational; compatible to 1.5V operation.", M1 VSS (power) "Ground.", M8 VREFCA (in) "Reference voltage for control, command, and address: VREFCA must be maintained at all times (including self refresh) for proper device operation.", M9 VSS (power) "Ground.", N1 VDD (power) "Power supply: 1.35V, 1.283-1.45V operational; compatible to 1.5V operation.", N9 VDD (power) "Power supply: 1.35V, 1.283-1.45V operational; compatible to 1.5V operation.", P1 VSS (power) "Ground.", P9 VSS (power) "Ground.", R1 VDD (power) "Power supply: 1.35V, 1.283-1.45V operational; compatible to 1.5V operation.", R9 VDD (power) "Power supply: 1.35V, 1.283-1.45V operational; compatible to 1.5V operation.", T1 VSS (power) "Ground.", T9 VSS (power) "Ground."
part C pins: J1 NC "No connect: These balls should be left unconnected (the ball has no connection to the DRAM or to other balls).", J9 NC "No connect: These balls should be left unconnected (the ball has no connection to the DRAM or to other balls).", L1 NC "No connect: These balls should be left unconnected (the ball has no connection to the DRAM or to other balls).", L9 NC "No connect: These balls should be left unconnected (the ball has no connection to the DRAM or to other balls).", M7 NC "No connect: These balls should be left unconnected (the ball has no connection to the DRAM or to other balls).", T7 NC "No connect: These balls should be left unconnected (the ball has no connection to the DRAM or to other balls)."

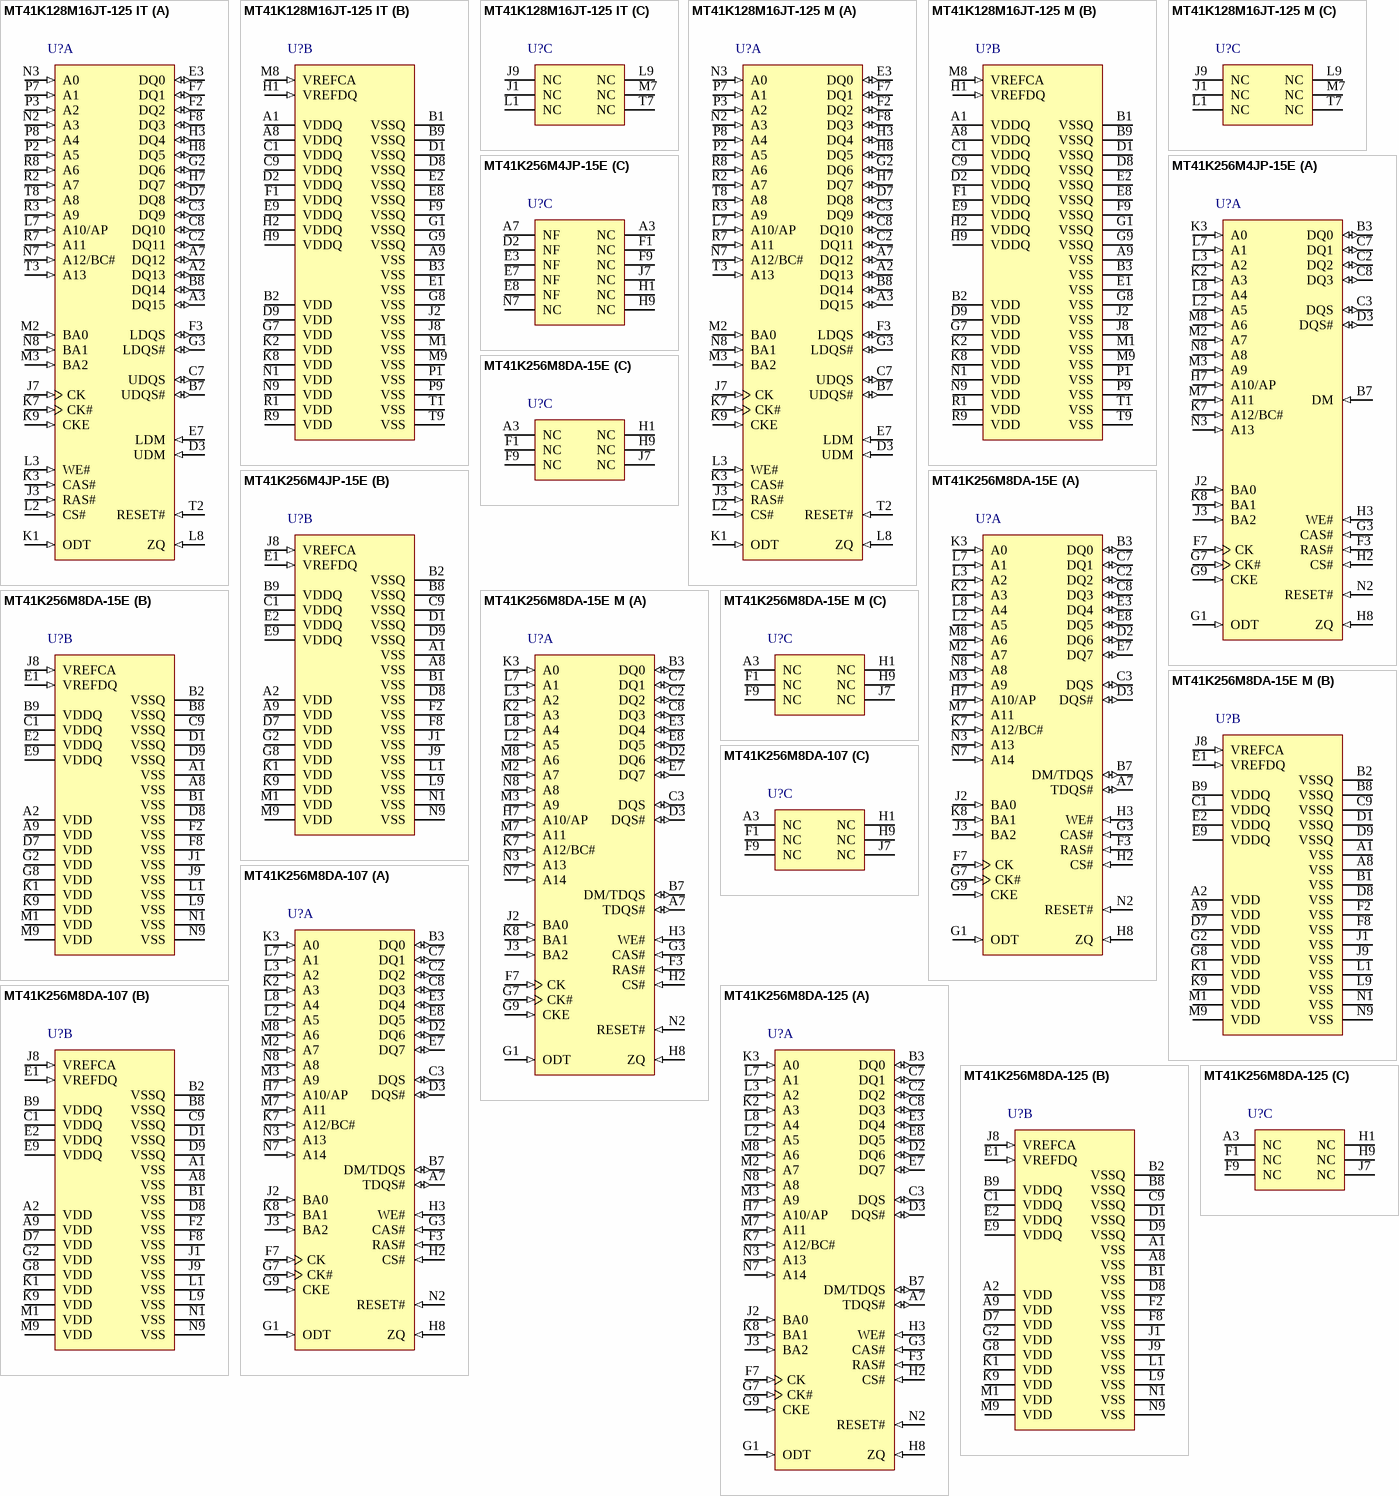
[diagram p12: symbols MT41K128M16JT-125 IT to MT41K256M8DA-125]